# Altium footprint library Pcblibv2.PcbLib: 97 footprints (part 4 of 7)
Each footprint in its own frame and in the unit in brackets; x right, y up, seen from the top. Pads: shape width x height; smd on the part's side, far side on the other; paste and mask are expansions set on the pad; w line width, h text height; cw(c..) or ccw(c..) is an arc to the next point about the centre after c.
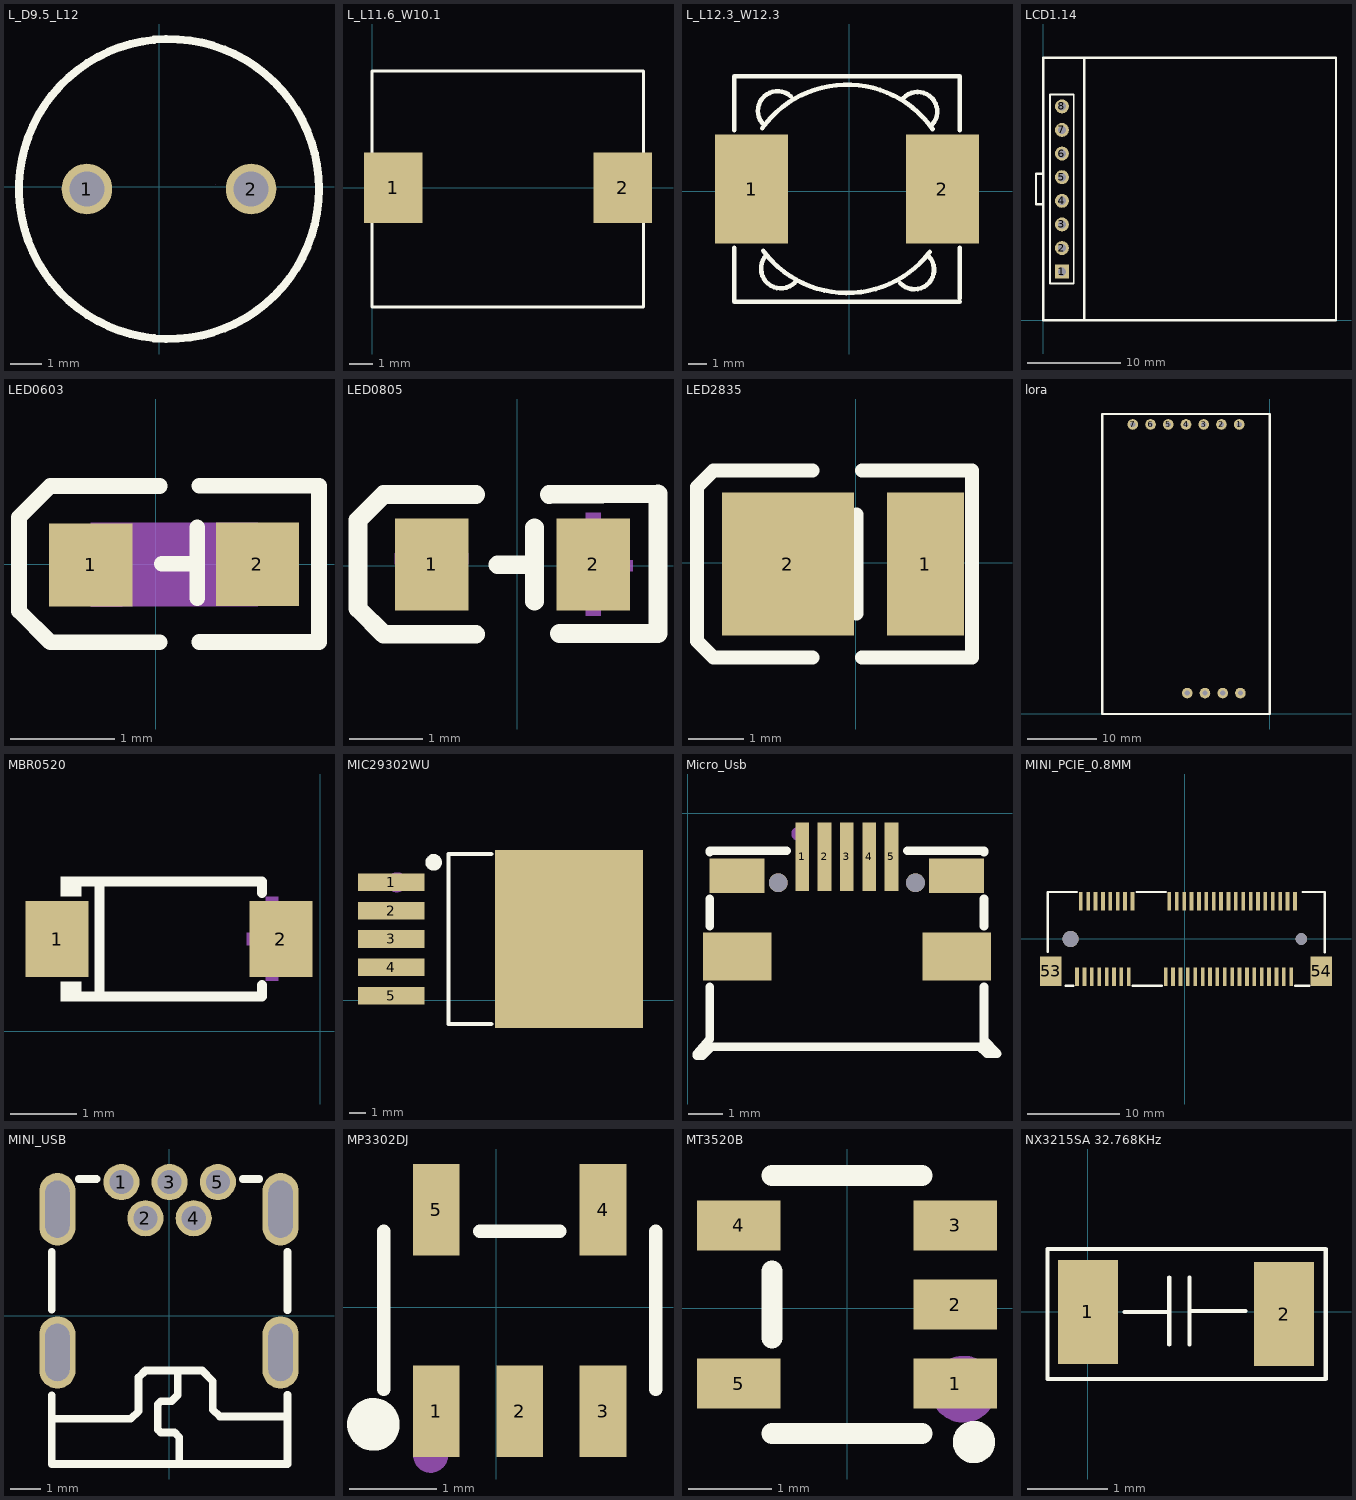
[diagram p3: the footprints below, top view; thin cyan lines are the x and y axes]

## L_D9.5_L12 [mm]
pads (2):
  round 1.6 hole 1.1 paste+0 mask+0.051: 1(-2.295,-0.076) 2(2.905,-0.076)
Top Overlay:
  circle w0.254: c0.305,-0.076 r4.75
Mechanical 15:
  lines w0.003: 1.765,0.051 1.766,0.051

## L_L11.6_W10.1 [mm] "https://item.taobao.com/item.htm?spm=a1z10.3-c-s.w4002-21223910208.40.112c6a4bikeALD&id=528441541881"
pads (2):
  rect 2.5x3 smd: 1(0.886,0) 2(10.706,0)
Top Overlay:
  lines w0.127: -0.023,-5.105 11.577,-5.105 11.577,4.995 -0.023,4.995 -0.023,-5.105

## L_L12.3_W12.3 [mm] "功率电感"
pads (2):
  rect 4x6 smd: 1(-5.377,0.127) 2(5.123,0.127)
Top Overlay:
  lines w0.254: -6.327,-3.104 -6.327,-6.073 6.073,-6.073 ; -6.327,3.358 -6.327,6.327 6.073,6.327 6.073,3.358 ; -4.793,3.475 cw(c-0.127,0.127) 4.573,3.427 ; -4.727,-3.273 ccw(c-0.127,0.127) 4.425,-3.337 ; -4.677,3.631 cw(c-3.949,4.426) -3.227,5.227 ; -4.661,-3.632 ccw(c-3.768,-4.251) -2.885,-4.884 ; 2.8,-5.049 ccw(c3.584,-4.308) 4.373,-3.573 ; 2.961,5.115 cw(c3.756,4.387) 4.557,3.665 ; 6.073,-5.873 6.073,-3.104

## LCD1.14 [mm]
pads (8):
  rect 1.5x1.5 hole 0.9: 1(2.032,5.21)
  round 1.5 hole 0.9: 2(2.032,7.75) 3(2.032,10.29) 4(2.032,12.83) 5(2.032,15.37) 6(2.032,17.91) 7(2.032,20.45) 8(2.032,22.99)
Top Overlay:
  lines w0.2: 0.762,3.94 3.302,3.94 3.302,24.26 0.762,24.26 0.762,3.94
  lines w0.254: 0,12.446 -0.762,12.446 -0.762,15.748 0,15.748 ; 0,22.99 0,24.26 ; 4.445,0.003 4.445,14.103 4.445,28.203 ; 0,0 31.5,0 31.5,28.2 0,28.2 0,14.1 0,0

## LED0603 [mm]
pads (2):
  rect 0.8x0.8 smd: 1(-0.623,-0.009) 2(0.976,-0.002)
Top Overlay:
  lines w0.15: 0.037,-0.751 -1.013,-0.751 -1.313,-0.451 -1.313,-0.351 -1.313,0.349 -1.313,0.449 -1.013,0.749 0.037,0.749 ; 0.057,0.001 0.397,0.001 ; 0.397,-0.329 0.397,0.351 ; 0.417,-0.749 1.567,-0.749 ; 0.417,0.751 1.567,0.751 ; 1.567,-0.729 1.567,0.751
Mechanical 4:
  region: -0.623,-0.405 -0.623,0.395 0.977,0.395 0.977,-0.405
Mechanical 5:
  region: -0.623,-0.409 -0.623,0.391 -0.323,0.391 -0.323,-0.409
  region: 0.677,-0.402 0.677,0.398 0.977,0.398 0.977,-0.402
Mechanical 15:
  region: -0.893,0.056 -0.353,0.056 -0.353,-0.074 -0.893,-0.074
  region: 0.911,-0.272 0.911,0.268 1.041,0.268 1.041,-0.272
  region: 0.705,0.063 1.246,0.063 1.246,-0.067 0.705,-0.067
3D body "LED0603.STEP": height 0.6, standoff 0, extent -0.556,-0.425 1.064,0.374

## LED0805 [mm]
pads (2):
  rect 1x1.25 smd: 1(-1.167,0.02) 2(1.033,0.02)
Top Overlay:
  lines w0.254: -0.567,-0.93 -1.817,-0.93 ; -0.567,0.97 -1.817,0.97 ; -0.267,0.015 0.233,0.015 ; 0.233,-0.48 0.233,0.52 ; 0.433,0.97 1.913,0.98 1.913,-0.92 0.573,-0.92 ; -1.817,-0.93 -2.167,-0.58 -2.167,0.62 -1.817,0.97 ; -1.817,-0.93 -1.817,-0.93 ; -1.817,0.97 -1.817,0.97
Mechanical 15:
  region: -1.667,0.02 -0.667,0.02 -0.667,0.17 -1.667,0.17
  region: 0.568,-0.074 1.568,-0.074 1.568,0.076 0.568,0.076
  region: 0.933,0.72 1.133,0.72 1.133,-0.68 0.933,-0.68

## LED2835 [mm]
pads (2):
  rect 1.4x2.6 smd: 1(1.269,-0.025)
  rect 2.4x2.6 smd: 2(-1.231,-0.025)
Top Overlay:
  lines w0.254: -0.781,1.675 -2.581,1.675 -2.881,1.375 -2.881,-1.425 -2.581,-1.725 -0.781,-1.725 ; -0.681,-0.025 0.019,-0.024 ; 0.019,-0.925 0.019,0.875 ; 0.119,-1.725 2.119,-1.725 2.119,1.675 0.119,1.675 ; -0.781,-1.725 -0.781,-1.725
Mechanical 15:
  region: 0.699,0.115 1.159,0.115 1.159,0.555 1.479,0.555 1.479,0.115 1.899,0.115 1.899,-0.165 1.479,-0.165 1.479,-0.625 1.159,-0.625 1.159,-0.165 0.699,-0.165
  region: -0.701,0.115 -1.761,0.115 -1.761,-0.165 -0.701,-0.165

## lora [mil]
pads (11):
  round 60 hole 30: 1(-172.44,1633.86) 2(-272.44,1633.86) 3(-372.44,1633.86) 4(-472.44,1633.86) 5(-572.44,1633.86) 6(-672.44,1633.86) 7(-772.44,1633.86) ""(-465.35,118.11) ""(-365.35,118.11) ""(-265.35,118.11) ""(-165.35,118.11)
Top Overlay:
  lines w11.81: -944.88,0 -944.88,1692.91 0,1692.91 0,0 -944.88,0

## MBR0520 [mm]
pads (2):
  rect 0.95x1.15 smd: 1(-3.981,1.394) 2(-0.596,1.394)
Top Overlay:
  region: -3.619,0.452 -3.619,0.747 -3.923,0.747 -3.923,0.452
  region: -3.619,2.337 -3.619,2.042 -3.923,2.042 -3.923,2.337
  lines w0.152: -3.695,0.528 -0.882,0.528 -0.882,0.696 ; -3.695,2.261 -0.882,2.261 -0.882,2.093 ; -3.338,0.528 -3.338,2.261
Mechanical 15:
  region: -0.638,2.029 -0.638,0.765 -0.827,0.765 -0.827,2.029
  region: -0.353,1.492 -0.353,1.303 -1.112,1.303 -1.112,1.492
  region: -4.319,1.489 -4.319,1.3 -3.56,1.3 -3.56,1.489

## MIC29302WU [mm]
pads (6):
  rect 4x1.069 smd: 1(-18.113,7.083) 2(-18.113,5.383) 3(-18.113,3.683) 4(-18.113,1.983) 5(-18.113,0.283)
  rect 8.89x10.66 smd: ""(-7.446,3.683)
Top Overlay:
  circle w0.5: c-15.58,8.283 r0.25
  lines w0.254: -12.122,-1.417 -14.68,-1.417 -14.68,8.783 -12.18,8.783 -12.122,8.783
Mechanical 15:
  circle w0.6: c-17.779,7.083 r0.3

## Micro_Usb [mm]
pads (11):
  rect 0.4x2 smd: 1(3.331,-1.272) 2(3.981,-1.272) 3(4.632,-1.272) 4(5.282,-1.272) 5(5.932,-1.272)
  rect 2x1.4 smd: ""(1.432,-4.177) ""(7.832,-4.177)
  rect 1.6x1 smd: ""(1.432,-1.823) ""(7.832,-1.823)
  round 0.55 hole 0.55 unplated: ""(2.631,-2.027) ""(6.631,-2.027)
Top Overlay:
  lines w0.254: 0.621,-6.593 0.263,-7.012 0.263,-7.063 0.428,-7.063 0.686,-6.806 8.509,-6.806 8.716,-7.012 9.008,-7.012 8.622,-6.593 ; 0.631,-6.594 0.631,-5.123 0.631,-5.058 ; 0.631,-3.296 0.631,-2.504 ; 0.631,-1.142 0.631,-1.092 2.874,-1.092 ; 6.389,-1.092 8.632,-1.092 8.632,-1.142 ; 8.632,-6.716 8.632,-5.123 8.632,-5.058 ; 8.632,-3.296 8.632,-2.504
Mechanical 15:
  circle w0.2: c3.211,-0.603 r0.1

## MINI_PCIE_0.8MM [mm]
pads (56):
  rect 0.4x2 smd: 1(-11.673,-4.11) 2(-11.273,4.09) 3(-10.873,-4.11) 4(-10.473,4.09) 5(-10.073,-4.11) 6(-9.673,4.09) 7(-9.273,-4.11) 8(-8.873,4.09) 9(-8.473,-4.11) 10(-8.073,4.09) 11(-7.673,-4.11) 12(-7.273,4.09) 13(-6.873,-4.11) 14(-6.473,4.09) 15(-6.073,-4.11) 16(-5.673,4.09) 17(-2.073,-4.11) 18(-1.673,4.09) 19(-1.273,-4.11) 20(-0.873,4.09) 21(-0.473,-4.11) 22(-0.073,4.09) 23(0.327,-4.11) 24(0.727,4.09) 25(1.127,-4.11) 26(1.527,4.09) 27(1.927,-4.11) 28(2.327,4.09) 29(2.727,-4.11) 30(3.127,4.09) 31(3.527,-4.11) 32(3.927,4.09) 33(4.327,-4.11) 34(4.727,4.09) 35(5.127,-4.11) 36(5.527,4.09) 37(5.927,-4.11) 38(6.327,4.09) 39(6.729,-4.11) 40(7.127,4.09) 41(7.527,-4.11) 42(7.927,4.09) 43(8.327,-4.11) 44(8.727,4.09) 45(9.127,-4.11) 46(9.529,4.09) 47(9.927,-4.11) 48(10.327,4.09) 49(10.727,-4.11) 50(11.127,4.09) 51(11.527,-4.11) 52(11.927,4.09)
  rect 2.3x3.2 smd: 53(-14.523,-3.51) 54(14.777,-3.51)
  round 1.75 hole 1.75 unplated: ""(-12.373,-0.01)
  round 1.25 hole 1.25 unplated: ""(12.627,-0.01)
Top Overlay:
  lines w0.254: -14.863,-1.42 -14.863,5.08 -12.163,5.08 -11.704,5.08 ; -12.933,-5.08 -12.164,-5.08 -12.104,-5.08 ; -5.642,-5.08 -2.504,-5.08 ; -5.242,5.08 -2.053,5.08 ; 11.958,-5.08 13.487,-5.08 ; 12.747,5.08 15.157,5.08 15.157,-1.47
Mechanical 15:
  circle w0.55: c12.627,-0.01 r0.275
  circle w0.8: c-12.373,-0.01 r0.4

## MINI_USB [mm]
pads (9):
  round 1.2 hole 0.8: 1(-1.58,4.438) 2(-0.78,3.238) 3(0.02,4.438) 4(0.82,3.238) 5(1.62,4.438)
  oval 1.2x2.4 hole 0.8 slot 1.9 at 90 deg: ""(-3.7,-1.211) ""(-3.7,3.538) ""(3.7,-1.211) ""(3.7,3.538)
Top Overlay:
  lines w0.254: -3.893,-2.626 -3.893,-4.911 3.932,-4.911 3.932,-2.617 ; -3.893,0.2 -3.893,2.124 ; -3.854,-3.41 -1.263,-3.41 -1.009,-3.156 -1.009,-2.039 -0.78,-1.81 1.099,-1.81 1.455,-2.166 1.455,-3.105 1.683,-3.334 3.932,-3.334 ; -2.994,4.54 -2.405,4.54 ; 0.286,-1.81 0.286,-2.547 0.286,-2.623 0.083,-2.826 -0.272,-2.826 -0.374,-2.928 -0.374,-3.766 -0.272,-3.867 0.185,-3.867 0.337,-4.02 0.337,-4.911 ; 2.445,4.54 2.994,4.54 ; 3.932,0.19 3.932,2.133

## MP3302DJ [mm]
pads (5):
  rect 0.532x1.045 smd: 1(-0.683,-1.182) 2(0.268,-1.182) 3(1.218,-1.182) 4(1.218,1.113) 5(-0.682,1.113)
Top Overlay:
  circle w0.3: c-1.401,-1.335 r0.15
  lines w0.152: -1.284,-0.936 -1.284,0.866 ; -0.188,0.866 0.723,0.866 ; 1.819,-0.936 1.819,0.866
Mechanical 15:
  circle w0.2: c-0.748,-1.686 r0.1

## MT3520B [mm]
pads (5):
  rect 1x0.6 smd: 1(1.3,-0.902) 2(1.3,0.048) 3(1.3,0.998) 4(-1.3,0.998) 5(-1.3,-0.902)
Top Overlay:
  circle w0.254: c1.524,-1.603 r0.127
  lines w0.254: -0.9,-1.502 0.9,-1.502 ; -0.9,-0.352 -0.9,0.448 ; -0.9,1.598 0.9,1.598
Mechanical 15:
  circle w0.4: c1.397,-0.968 r0.2

## NX3215SA 32.768KHz [mm] "C438900"
pads (2):
  rect 0.75x1.3 smd: 1(0,0) 2(2.45,-0.025)
Top Overlay:
  lines w0.051: 0.457,0 1.016,0 ; 1.016,-0.406 1.016,0 ; 1.016,0.432 1.016,0 ; 1.27,-0.406 1.27,0.432 ; 1.27,0.013 1.968,0.013 ; -0.508,-0.838 -0.508,0.787 2.972,0.787 2.972,-0.838 -0.508,-0.838